# Altium footprint library FPGA_board.PcbLib: 25 footprints (part 1 of 2)
Each footprint in its own frame and in the unit in brackets; x right, y up, seen from the top. Pads: shape width x height; smd on the part's side, far side on the other; paste and mask are expansions set on the pad; w line width, h text height; cw(c..) or ccw(c..) is an arc to the next point about the centre after c.
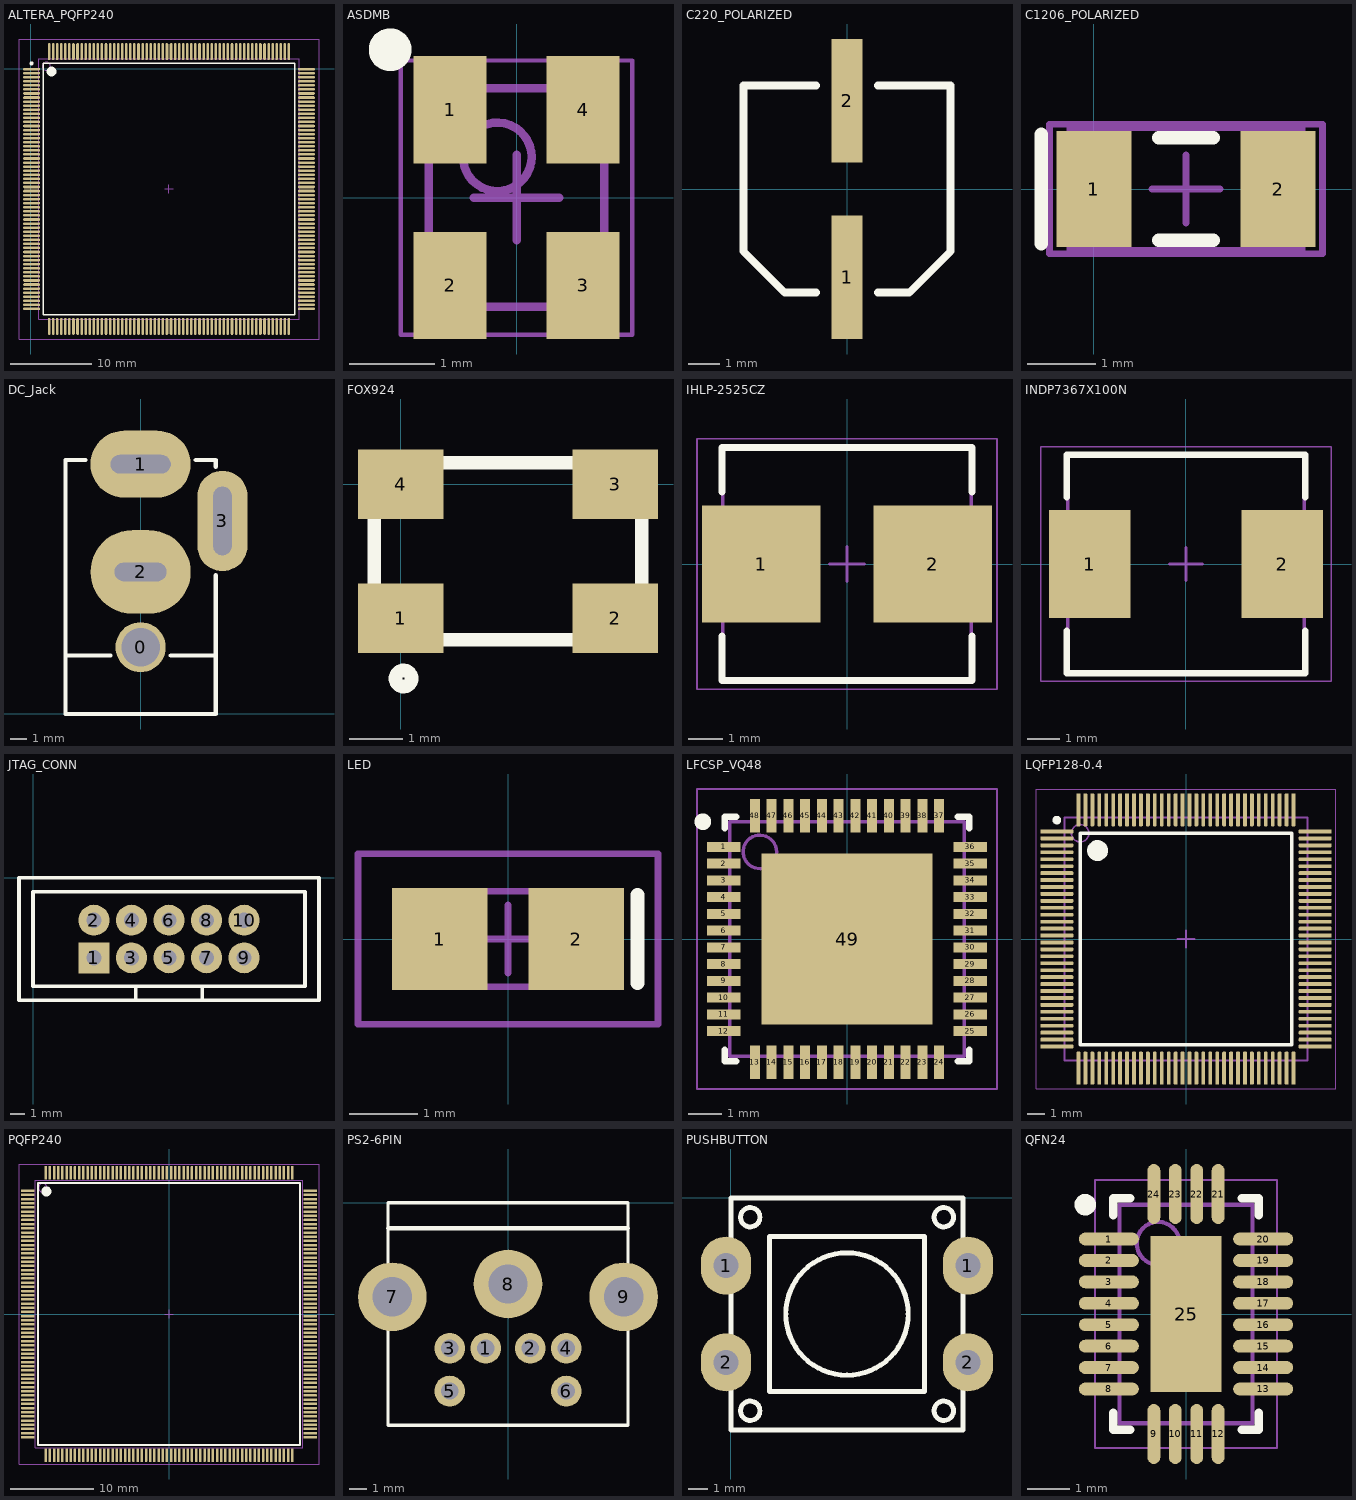
[diagram p0: the footprints below, top view; thin cyan lines are the x and y axes]

## ALTERA_PQFP240 [mm]
pads (240):
  oval 2.1x0.32 smd: 1(0.125,-0.025) 2(0.125,-0.525) 3(0.125,-1.025) 4(0.125,-1.525) 5(0.125,-2.025) 6(0.125,-2.525) 7(0.125,-3.025) 8(0.125,-3.525) 9(0.125,-4.025) 10(0.125,-4.525) 11(0.125,-5.025) 12(0.125,-5.525) 13(0.125,-6.025) 14(0.125,-6.525) 15(0.125,-7.025) 16(0.125,-7.525) 17(0.125,-8.025) 18(0.125,-8.525) 19(0.125,-9.025) 20(0.125,-9.525) 21(0.125,-10.025) 22(0.125,-10.525) 23(0.125,-11.025) 24(0.125,-11.525) 25(0.125,-12.025) 26(0.125,-12.525) 27(0.125,-13.025) 28(0.125,-13.525) 29(0.125,-14.025) 30(0.125,-14.525) 31(0.125,-15.025) 32(0.125,-15.525) 33(0.125,-16.025) 34(0.125,-16.525) 35(0.125,-17.025) 36(0.125,-17.525) 37(0.125,-18.025) 38(0.125,-18.525) 39(0.125,-19.025) 40(0.125,-19.525) 41(0.125,-20.025) 42(0.125,-20.525) 43(0.125,-21.025) 44(0.125,-21.525) 45(0.125,-22.025) 46(0.125,-22.525) 47(0.125,-23.025) 48(0.125,-23.525) 49(0.125,-24.025) 50(0.125,-24.525) 51(0.125,-25.025) 52(0.125,-25.525) 53(0.125,-26.025) 54(0.125,-26.525) 55(0.125,-27.025) 56(0.125,-27.525) 57(0.125,-28.025) 58(0.125,-28.525) 59(0.125,-29.025) 60(0.125,-29.525) 121(33.925,-29.525) 122(33.925,-29.025) 123(33.925,-28.525) 124(33.925,-28.025) 125(33.925,-27.525) 126(33.925,-27.025) 127(33.925,-26.525) 128(33.925,-26.025) 129(33.925,-25.525) 130(33.925,-25.025) 131(33.925,-24.525) 132(33.925,-24.025) 133(33.925,-23.525) 134(33.925,-23.025) 135(33.925,-22.525) 136(33.925,-22.025) 137(33.925,-21.525) 138(33.925,-21.025) 139(33.925,-20.525) 140(33.925,-20.025) 141(33.925,-19.525) 142(33.925,-19.025) 143(33.925,-18.525) 144(33.925,-18.025) 145(33.925,-17.525) 146(33.925,-17.025) 147(33.925,-16.525) 148(33.925,-16.025) 149(33.925,-15.525) 150(33.925,-15.025) 151(33.925,-14.525) 152(33.925,-14.025) 153(33.925,-13.525) 154(33.925,-13.025) 155(33.925,-12.525) 156(33.925,-12.025) 157(33.925,-11.525) 158(33.925,-11.025) 159(33.925,-10.525) 160(33.925,-10.025) 161(33.925,-9.525) 162(33.925,-9.025) 163(33.925,-8.525) 164(33.925,-8.025) 165(33.925,-7.525) 166(33.925,-7.025) 167(33.925,-6.525) 168(33.925,-6.025) 169(33.925,-5.525) 170(33.925,-5.025) 171(33.925,-4.525) 172(33.925,-4.025) 173(33.925,-3.525) 174(33.925,-3.025) 175(33.925,-2.525) 176(33.925,-2.025) 177(33.925,-1.525) 178(33.925,-1.025) 179(33.925,-0.525) 180(33.925,-0.025)
  oval 0.32x2.1 smd: 61(2.275,-31.675) 62(2.775,-31.675) 63(3.275,-31.675) 64(3.775,-31.675) 65(4.275,-31.675) 66(4.775,-31.675) 67(5.275,-31.675) 68(5.775,-31.675) 69(6.275,-31.675) 70(6.775,-31.675) 71(7.275,-31.675) 72(7.775,-31.675) 73(8.275,-31.675) 74(8.775,-31.675) 75(9.275,-31.675) 76(9.775,-31.675) 77(10.275,-31.675) 78(10.775,-31.675) 79(11.275,-31.675) 80(11.775,-31.675) 81(12.275,-31.675) 82(12.775,-31.675) 83(13.275,-31.675) 84(13.775,-31.675) 85(14.275,-31.675) 86(14.775,-31.675) 87(15.275,-31.675) 88(15.775,-31.675) 89(16.275,-31.675) 90(16.775,-31.675) 91(17.275,-31.675) 92(17.775,-31.675) 93(18.275,-31.675) 94(18.775,-31.675) 95(19.275,-31.675) 96(19.775,-31.675) 97(20.275,-31.675) 98(20.775,-31.675) 99(21.275,-31.675) 100(21.775,-31.675) 101(22.275,-31.675) 102(22.775,-31.675) 103(23.275,-31.675) 104(23.775,-31.675) 105(24.275,-31.675) 106(24.775,-31.675) 107(25.275,-31.675) 108(25.775,-31.675) 109(26.275,-31.675) 110(26.775,-31.675) 111(27.275,-31.675) 112(27.775,-31.675) 113(28.275,-31.675) 114(28.775,-31.675) 115(29.275,-31.675) 116(29.775,-31.675) 117(30.275,-31.675) 118(30.775,-31.675) 119(31.275,-31.675) 120(31.775,-31.675) 181(31.775,2.125) 182(31.275,2.125) 183(30.775,2.125) 184(30.275,2.125) 185(29.775,2.125) 186(29.275,2.125) 187(28.775,2.125) 188(28.275,2.125) 189(27.775,2.125) 190(27.275,2.125) 191(26.775,2.125) 192(26.275,2.125) 193(25.775,2.125) 194(25.275,2.125) 195(24.775,2.125) 196(24.275,2.125) 197(23.775,2.125) 198(23.275,2.125) 199(22.775,2.125) 200(22.275,2.125) 201(21.775,2.125) 202(21.275,2.125) 203(20.775,2.125) 204(20.275,2.125) 205(19.775,2.125) 206(19.275,2.125) 207(18.775,2.125) 208(18.275,2.125) 209(17.775,2.125) 210(17.275,2.125) 211(16.775,2.125) 212(16.275,2.125) 213(15.775,2.125) 214(15.275,2.125) 215(14.775,2.125) 216(14.275,2.125) 217(13.775,2.125) 218(13.275,2.125) 219(12.775,2.125) 220(12.275,2.125) 221(11.775,2.125) 222(11.275,2.125) 223(10.775,2.125) 224(10.275,2.125) 225(9.775,2.125) 226(9.275,2.125) 227(8.775,2.125) 228(8.275,2.125) 229(7.775,2.125) 230(7.275,2.125) 231(6.775,2.125) 232(6.275,2.125) 233(5.775,2.125) 234(5.275,2.125) 235(4.775,2.125) 236(4.275,2.125) 237(3.775,2.125) 238(3.275,2.125) 239(2.775,2.125) 240(2.275,2.125)
Top Overlay:
  circle w0.6: c2.575,-0.325 r0.3
  circle w0.25: c0.125,0.675 r0.125
  lines w0.2: 1.575,-30.225 32.475,-30.225 32.475,0.675 1.575,0.675 1.575,-30.225
Mechanical 13:
  circle w0.1: c1.925,0.325 r0.5
  lines w0.1: 1.025,-30.775 33.025,-30.775 33.025,1.225 1.025,1.225 1.025,-30.775
Mechanical 15:
  lines w0.1: 16.525,-14.775 17.525,-14.775 ; 17.025,-15.275 17.025,-14.275 ; -1.425,-33.225 35.475,-33.225 35.475,3.675 -1.425,3.675 -1.425,-33.225
3D body: height 4.1, standoff 0, extent 1.025,-30.775 33.025,1.225

## ASDMB [mm]
height 0.9
pads (4):
  rect 0.85x1.25 smd: 1(-0.775,1.025) 2(-0.775,-1.025) 3(0.775,-1.025) 4(0.775,1.025)
Top Overlay:
  circle w0.25: c-1.475,1.725 r0.125
Mechanical 13:
  circle w0.1: c-0.225,0.475 r0.4
  lines w0.1: -1.025,-1.275 -1.025,1.275 1.025,1.275 1.025,-1.275 -1.025,-1.275
Mechanical 15:
  lines w0.05: -1.35,-1.6 -1.35,1.6 1.35,1.6 1.35,-1.6 -1.35,-1.6
  lines w0.1: -0.5,0 0.5,0 ; 0,-0.5 0,0.5
3D body: height 0.9, standoff 0, extent -1.025,-1.275 1.025,1.275

## C220_POLARIZED [mm]
height 7.8
pads (2):
  rect 1x4 smd: 1(0,-2.85) 2(0,2.85)
Top Overlay:
  lines w0.254: -1.005,-3.35 -2.01,-3.35 -3.35,-2.01 -3.35,3.35 -1.005,3.35 ; 1.005,-3.35 2.01,-3.35 3.35,-2.01 3.35,3.35 1.005,3.35

## C1206_POLARIZED [mm]
height 2
pads (2):
  rect 1.1x1.7 smd: 1(0,0) 2(2.7,0)
Top Overlay:
  lines w0.2: -0.775,-0.8 -0.775,0.8 ; 0.95,-0.75 1.75,-0.75 ; 0.95,0.75 1.75,0.75
Mechanical 13:
  lines w0.1: -0.35,-0.9 -0.35,0.9 3.05,0.9 3.05,-0.9 -0.35,-0.9
Mechanical 15:
  lines w0.1: 0.85,0 1.85,0 ; 1.35,-0.5 1.35,0.5 ; -0.65,-0.95 -0.65,0.95 3.35,0.95 3.35,-0.95 -0.65,-0.95
3D body: height 1.3, standoff 0, extent -0.35,-0.9 3.05,0.9

## DC_Jack [mm]
height 11
pads (4):
  round 3 hole 2.3: 0(0,4)
  oval 6x4 hole 1.1 slot 3.6 at 0 deg: 1(0,14.95)
  oval 6x5 hole 1.1 slot 3.1 at 0 deg: 2(0,8.5)
  oval 3x6 hole 1.1 slot 4.1 at 90 deg: 3(4.9,11.55)
Top Overlay:
  lines w0.254: -4.5,3.5 -1.8,3.5 ; -3.3,15.2 -4.5,15.2 -4.5,8.2 -4.5,0 4.5,0 4.5,8.3 ; 1.8,3.5 4.5,3.5 ; 3.3,15.2 4.5,15.2 4.5,14.8

## FOX924 [mm]
height 1.5
pads (4):
  rect 1.6x1.3 smd: 1(0,-2.5) 2(4,-2.5) 3(4,0) 4(0,0)
Top Overlay:
  circle w0.254: c0.05,-3.625 r0.15
  lines w0.254: -0.5,-2.9 -0.5,0.4 4.5,0.4 4.5,-2.9 -0.5,-2.9

## IHLP-2525CZ [mm] "Molded Inductor, 2-Leads, Body 6,86x6,47mm, IPC Medium Density"
height 3
pads (2):
  rect 3.45x3.4 smd: 1(-2.5,0) 2(2.5,0)
Top Overlay:
  lines w0.2: -3.65,-2.1 -3.65,-3.4 3.65,-3.4 3.65,-2.1 ; -3.65,2.1 -3.65,3.4 3.65,3.4 3.65,2.1
Mechanical 13:
  lines w0.1: -3.62,-3.36 -3.62,3.36 3.62,3.36 3.62,-3.36 -3.62,-3.36
Mechanical 15:
  lines w0.05: -4.375,-3.65 -4.375,3.65 4.375,3.65 4.375,-3.65 -4.375,-3.65
  lines w0.1: -0.5,0 0.5,0 ; 0,-0.5 0,0.5
3D body: height 3, standoff 0, extent -3.62,-3.36 3.62,3.36

## INDP7367X100N [mm] "Precision Wire Wound Inductor, 2-Leads, Body 7,25x6,7mm, IPC Medium Density"
height 10
pads (2):
  rect 2.5x3.3 smd: 1(-2.95,0) 2(2.95,0)
Top Overlay:
  lines w0.2: -3.65,-2.05 -3.65,-3.35 3.65,-3.35 3.65,-2.05 ; -3.65,2.05 -3.65,3.35 3.65,3.35 3.65,2.05
Mechanical 13:
  lines w0.1: -3.625,-3.35 3.625,-3.35 3.625,3.35 -3.625,3.35 -3.625,-3.35
Mechanical 15:
  lines w0.05: -4.45,-3.6 4.45,-3.6 4.45,3.6 -4.45,3.6 -4.45,-3.6
  lines w0.1: -0.5,0 0.5,0 ; 0,-0.5 0,0.5
3D body: height 10, standoff 0, extent -3.625,-3.35 3.625,3.35

## JTAG_CONN [mm]
height 8.9
pads (10):
  rect 2.1x2.1 hole 1.02: 1(4.12,-5.42)
  round 2.1 hole 1.02: 2(4.12,-2.88) 3(6.66,-5.42) 4(6.66,-2.88) 5(9.2,-5.42) 6(9.2,-2.88) 7(11.74,-5.42) 8(11.74,-2.88) 9(14.28,-5.42) 10(14.28,-2.88)
Top Overlay:
  lines w0.254: 6.95,-8.3 6.95,-7.35 ; 11.45,-8.3 11.45,-7.35 ; -0.95,-8.3 -0.95,0 19.35,0 19.35,-8.3 -0.95,-8.3 ; 0,-7.35 0,-0.95 18.4,-0.95 18.4,-7.35 0,-7.35
3D body: height 2, standoff 0, extent -1.077,-8.427 19.477,0.127
3D body: height 8.9, standoff 0, extent -0.949,-8.299 19.349,-0.001

## LED [mm]
height 1
pads (2):
  rect 1.4x1.5 smd: 1(-1,0) 2(1,0)
Top Overlay:
  lines w0.2: 1.9,-0.65 1.9,0.65
Mechanical 13:
  lines w0.1: -1.075,-0.7 -1.075,0.7 1.075,0.7 1.075,-0.7 -1.075,-0.7
Mechanical 15:
  lines w0.1: -0.5,0 0.5,0 ; 0,-0.5 0,0.5 ; -2.2,-1.25 -2.2,1.25 2.2,1.25 2.2,-1.25 -2.2,-1.25
3D body: height 0.7, standoff 0, extent -1.075,-0.7 1.075,0.7

## LFCSP_VQ48 [mm] "QFN, 48-Leads, Body 7,00x7,00mm, Pitch 0,50mm, Thermal Pad 5,10x5,10mm, IPC Low Density"
height 1
pads (49):
  rect 1x0.3 smd: 1(-3.675,2.75) 2(-3.675,2.25) 3(-3.675,1.75) 4(-3.675,1.25) 5(-3.675,0.75) 6(-3.675,0.25) 7(-3.675,-0.25) 8(-3.675,-0.75) 9(-3.675,-1.25) 10(-3.675,-1.75) 11(-3.675,-2.25) 12(-3.675,-2.75) 25(3.675,-2.75) 26(3.675,-2.25) 27(3.675,-1.75) 28(3.675,-1.25) 29(3.675,-0.75) 30(3.675,-0.25) 31(3.675,0.25) 32(3.675,0.75) 33(3.675,1.25) 34(3.675,1.75) 35(3.675,2.25) 36(3.675,2.75)
  rect 0.3x1 smd: 13(-2.75,-3.675) 14(-2.25,-3.675) 15(-1.75,-3.675) 16(-1.25,-3.675) 17(-0.75,-3.675) 18(-0.25,-3.675) 19(0.25,-3.675) 20(0.75,-3.675) 21(1.25,-3.675) 22(1.75,-3.675) 23(2.25,-3.675) 24(2.75,-3.675) 37(2.75,3.675) 38(2.25,3.675) 39(1.75,3.675) 40(1.25,3.675) 41(0.75,3.675) 42(0.25,3.675) 43(-0.25,3.675) 44(-0.75,3.675) 45(-1.25,3.675) 46(-1.75,3.675) 47(-2.25,3.675) 48(-2.75,3.675)
  rect 5.1x5.1 smd: 49(0,0)
Top Overlay:
  circle w0.25: c-4.3,3.5 r0.125
  lines w0.2: -3.65,-3.3 -3.65,-3.65 -3.3,-3.65 ; -3.65,3.3 -3.65,3.65 -3.3,3.65 ; 3.3,-3.65 3.65,-3.65 3.65,-3.3 ; 3.3,3.65 3.65,3.65 3.65,3.3
Mechanical 13:
  circle w0.1: c-2.6,2.6 r0.5
  lines w0.1: -3.5,-3.5 -3.5,3.5 3.5,3.5 3.5,-3.5 -3.5,-3.5
Mechanical 15:
  lines w0.05: -4.475,-4.475 -4.475,4.475 4.475,4.475 4.475,-4.475 -4.475,-4.475
  lines w0.1: -0.5,0 0.5,0 ; 0,-0.5 0,0.5
3D body: height 1, standoff 0.05, extent -3.5,-3.5 3.5,3.5

## LQFP128-0.4 [mm]
height 1.6
pads (128):
  rrect50% 1.9x0.22 smd: 1(-7.45,6.2) 2(-7.45,5.8) 3(-7.45,5.4) 4(-7.45,5) 5(-7.45,4.6) 6(-7.45,4.2) 7(-7.45,3.8) 8(-7.45,3.4) 9(-7.45,3) 10(-7.45,2.6) 11(-7.45,2.2) 12(-7.45,1.8) 13(-7.45,1.4) 14(-7.45,1) 15(-7.45,0.6) 16(-7.45,0.2) 17(-7.45,-0.2) 18(-7.45,-0.6) 19(-7.45,-1) 20(-7.45,-1.4) 21(-7.45,-1.8) 22(-7.45,-2.2) 23(-7.45,-2.6) 24(-7.45,-3) 25(-7.45,-3.4) 26(-7.45,-3.8) 27(-7.45,-4.2) 28(-7.45,-4.6) 29(-7.45,-5) 30(-7.45,-5.4) 31(-7.45,-5.8) 32(-7.45,-6.2) 65(7.45,-6.2) 66(7.45,-5.8) 67(7.45,-5.4) 68(7.45,-5) 69(7.45,-4.6) 70(7.45,-4.2) 71(7.45,-3.8) 72(7.45,-3.4) 73(7.45,-3) 74(7.45,-2.6) 75(7.45,-2.2) 76(7.45,-1.8) 77(7.45,-1.4) 78(7.45,-1) 79(7.45,-0.6) 80(7.45,-0.2) 81(7.45,0.2) 82(7.45,0.6) 83(7.45,1) 84(7.45,1.4) 85(7.45,1.8) 86(7.45,2.2) 87(7.45,2.6) 88(7.45,3) 89(7.45,3.4) 90(7.45,3.8) 91(7.45,4.2) 92(7.45,4.6) 93(7.45,5) 94(7.45,5.4) 95(7.45,5.8) 96(7.45,6.2)
  rrect50% 0.22x1.9 smd: 33(-6.2,-7.45) 34(-5.8,-7.45) 35(-5.4,-7.45) 36(-5,-7.45) 37(-4.6,-7.45) 38(-4.2,-7.45) 39(-3.8,-7.45) 40(-3.4,-7.45) 41(-3,-7.45) 42(-2.6,-7.45) 43(-2.2,-7.45) 44(-1.8,-7.45) 45(-1.4,-7.45) 46(-1,-7.45) 47(-0.6,-7.45) 48(-0.2,-7.45) 49(0.2,-7.45) 50(0.6,-7.45) 51(1,-7.45) 52(1.4,-7.45) 53(1.8,-7.45) 54(2.2,-7.45) 55(2.6,-7.45) 56(3,-7.45) 57(3.4,-7.45) 58(3.8,-7.45) 59(4.2,-7.45) 60(4.6,-7.45) 61(5,-7.45) 62(5.4,-7.45) 63(5.8,-7.45) 64(6.2,-7.45) 97(6.2,7.45) 98(5.8,7.45) 99(5.4,7.45) 100(5,7.45) 101(4.6,7.45) 102(4.2,7.45) 103(3.8,7.45) 104(3.4,7.45) 105(3,7.45) 106(2.6,7.45) 107(2.2,7.45) 108(1.8,7.45) 109(1.4,7.45) 110(1,7.45) 111(0.6,7.45) 112(0.2,7.45) 113(-0.2,7.45) 114(-0.6,7.45) 115(-1,7.45) 116(-1.4,7.45) 117(-1.8,7.45) 118(-2.2,7.45) 119(-2.6,7.45) 120(-3,7.45) 121(-3.4,7.45) 122(-3.8,7.45) 123(-4.2,7.45) 124(-4.6,7.45) 125(-5,7.45) 126(-5.4,7.45) 127(-5.8,7.45) 128(-6.2,7.45)
Top Overlay:
  circle w0.25: c-7.45,6.855 r0.125
  circle w0.6: c-5.1,5.1 r0.3
  lines w0.2: -6.1,-6.1 -6.1,6.1 6.1,6.1 6.1,-6.1 -6.1,-6.1
Mechanical 13:
  circle w0.1: c-6.1,6.1 r0.5
  lines w0.1: -7,-7 -7,7 7,7 7,-7 -7,-7
Mechanical 15:
  lines w0.05: -8.65,-8.65 -8.65,8.65 8.65,8.65 8.65,-8.65 -8.65,-8.65
  lines w0.1: -0.5,0 0.5,0 ; 0,-0.5 0,0.5
3D body: height 1.6, standoff 0.05, extent -7,-7 7,7

## PQFP240 [mm] "SQFP, 240-Leads, Body 32,00x32,00mm, Pitch 0,50mm, IPC Medium Density"
height 4.1
pads (240):
  rrect50% 1.65x0.3 smd: 1(-16.9,14.75) 2(-16.9,14.25) 3(-16.9,13.75) 4(-16.9,13.25) 5(-16.9,12.75) 6(-16.9,12.25) 7(-16.9,11.75) 8(-16.9,11.25) 9(-16.9,10.75) 10(-16.9,10.25) 11(-16.9,9.75) 12(-16.9,9.25) 13(-16.9,8.75) 14(-16.9,8.25) 15(-16.9,7.75) 16(-16.9,7.25) 17(-16.9,6.75) 18(-16.9,6.25) 19(-16.9,5.75) 20(-16.9,5.25) 21(-16.9,4.75) 22(-16.9,4.25) 23(-16.9,3.75) 24(-16.9,3.25) 25(-16.9,2.75) 26(-16.9,2.25) 27(-16.9,1.75) 28(-16.9,1.25) 29(-16.9,0.75) 30(-16.9,0.25) 31(-16.9,-0.25) 32(-16.9,-0.75) 33(-16.9,-1.25) 34(-16.9,-1.75) 35(-16.9,-2.25) 36(-16.9,-2.75) 37(-16.9,-3.25) 38(-16.9,-3.75) 39(-16.9,-4.25) 40(-16.9,-4.75) 41(-16.9,-5.25) 42(-16.9,-5.75) 43(-16.9,-6.25) 44(-16.9,-6.75) 45(-16.9,-7.25) 46(-16.9,-7.75) 47(-16.9,-8.25) 48(-16.9,-8.75) 49(-16.9,-9.25) 50(-16.9,-9.75) 51(-16.9,-10.25) 52(-16.9,-10.75) 53(-16.9,-11.25) 54(-16.9,-11.75) 55(-16.9,-12.25) 56(-16.9,-12.75) 57(-16.9,-13.25) 58(-16.9,-13.75) 59(-16.9,-14.25) 60(-16.9,-14.75) 121(16.9,-14.75) 122(16.9,-14.25) 123(16.9,-13.75) 124(16.9,-13.25) 125(16.9,-12.75) 126(16.9,-12.25) 127(16.9,-11.75) 128(16.9,-11.25) 129(16.9,-10.75) 130(16.9,-10.25) 131(16.9,-9.75) 132(16.9,-9.25) 133(16.9,-8.75) 134(16.9,-8.25) 135(16.9,-7.75) 136(16.9,-7.25) 137(16.9,-6.75) 138(16.9,-6.25) 139(16.9,-5.75) 140(16.9,-5.25) 141(16.9,-4.75) 142(16.9,-4.25) 143(16.9,-3.75) 144(16.9,-3.25) 145(16.9,-2.75) 146(16.9,-2.25) 147(16.9,-1.75) 148(16.9,-1.25) 149(16.9,-0.75) 150(16.9,-0.25) 151(16.9,0.25) 152(16.9,0.75) 153(16.9,1.25) 154(16.9,1.75) 155(16.9,2.25) 156(16.9,2.75) 157(16.9,3.25) 158(16.9,3.75) 159(16.9,4.25) 160(16.9,4.75) 161(16.9,5.25) 162(16.9,5.75) 163(16.9,6.25) 164(16.9,6.75) 165(16.9,7.25) 166(16.9,7.75) 167(16.9,8.25) 168(16.9,8.75) 169(16.9,9.25) 170(16.9,9.75) 171(16.9,10.25) 172(16.9,10.75) 173(16.9,11.25) 174(16.9,11.75) 175(16.9,12.25) 176(16.9,12.75) 177(16.9,13.25) 178(16.9,13.75) 179(16.9,14.25) 180(16.9,14.75)
  rrect50% 0.3x1.65 smd: 61(-14.75,-16.9) 62(-14.25,-16.9) 63(-13.75,-16.9) 64(-13.25,-16.9) 65(-12.75,-16.9) 66(-12.25,-16.9) 67(-11.75,-16.9) 68(-11.25,-16.9) 69(-10.75,-16.9) 70(-10.25,-16.9) 71(-9.75,-16.9) 72(-9.25,-16.9) 73(-8.75,-16.9) 74(-8.25,-16.9) 75(-7.75,-16.9) 76(-7.25,-16.9) 77(-6.75,-16.9) 78(-6.25,-16.9) 79(-5.75,-16.9) 80(-5.25,-16.9) 81(-4.75,-16.9) 82(-4.25,-16.9) 83(-3.75,-16.9) 84(-3.25,-16.9) 85(-2.75,-16.9) 86(-2.25,-16.9) 87(-1.75,-16.9) 88(-1.25,-16.9) 89(-0.75,-16.9) 90(-0.25,-16.9) 91(0.25,-16.9) 92(0.75,-16.9) 93(1.25,-16.9) 94(1.75,-16.9) 95(2.25,-16.9) 96(2.75,-16.9) 97(3.25,-16.9) 98(3.75,-16.9) 99(4.25,-16.9) 100(4.75,-16.9) 101(5.25,-16.9) 102(5.75,-16.9) 103(6.25,-16.9) 104(6.75,-16.9) 105(7.25,-16.9) 106(7.75,-16.9) 107(8.25,-16.9) 108(8.75,-16.9) 109(9.25,-16.9) 110(9.75,-16.9) 111(10.25,-16.9) 112(10.75,-16.9) 113(11.25,-16.9) 114(11.75,-16.9) 115(12.25,-16.9) 116(12.75,-16.9) 117(13.25,-16.9) 118(13.75,-16.9) 119(14.25,-16.9) 120(14.75,-16.9) 181(14.75,16.9) 182(14.25,16.9) 183(13.75,16.9) 184(13.25,16.9) 185(12.75,16.9) 186(12.25,16.9) 187(11.75,16.9) 188(11.25,16.9) 189(10.75,16.9) 190(10.25,16.9) 191(9.75,16.9) 192(9.25,16.9) 193(8.75,16.9) 194(8.25,16.9) 195(7.75,16.9) 196(7.25,16.9) 197(6.75,16.9) 198(6.25,16.9) 199(5.75,16.9) 200(5.25,16.9) 201(4.75,16.9) 202(4.25,16.9) 203(3.75,16.9) 204(3.25,16.9) 205(2.75,16.9) 206(2.25,16.9) 207(1.75,16.9) 208(1.25,16.9) 209(0.75,16.9) 210(0.25,16.9) 211(-0.25,16.9) 212(-0.75,16.9) 213(-1.25,16.9) 214(-1.75,16.9) 215(-2.25,16.9) 216(-2.75,16.9) 217(-3.25,16.9) 218(-3.75,16.9) 219(-4.25,16.9) 220(-4.75,16.9) 221(-5.25,16.9) 222(-5.75,16.9) 223(-6.25,16.9) 224(-6.75,16.9) 225(-7.25,16.9) 226(-7.75,16.9) 227(-8.25,16.9) 228(-8.75,16.9) 229(-9.25,16.9) 230(-9.75,16.9) 231(-10.25,16.9) 232(-10.75,16.9) 233(-11.25,16.9) 234(-11.75,16.9) 235(-12.25,16.9) 236(-12.75,16.9) 237(-13.25,16.9) 238(-13.75,16.9) 239(-14.25,16.9) 240(-14.75,16.9)
Top Overlay:
  circle w0.6: c-14.675,14.675 r0.3
  lines w0.2: -15.675,-15.675 -15.675,15.675 15.675,15.675 15.675,-15.675 -15.675,-15.675
Mechanical 13:
  circle w0.1: c-15.1,15.1 r0.5
  lines w0.1: -16,-16 -16,16 16,16 16,-16 -16,-16
Mechanical 15:
  lines w0.05: -17.95,-17.95 -17.95,17.95 17.95,17.95 17.95,-17.95 -17.95,-17.95
  lines w0.1: -0.5,0 0.5,0 ; 0,-0.5 0,0.5
3D body: height 4.1, standoff 0.55, extent -16,-16 16,16

## PS2-6PIN [mm] "PS2 Socket, 6 Pin, Through Hole"
height 10
pads (9):
  round 1.8 hole 1: 1(-1.3,-8.5) 2(1.3,-8.5) 3(-3.4,-8.5) 4(3.4,-8.5) 5(-3.4,-11) 6(3.4,-11)
  round 4 hole 2.3: 7(-6.75,-5.5) 8(0,-4.75) 9(6.75,-5.5)
Top Overlay:
  lines w0.2: -7,-13 -7,0 7,0 7,-13 -7,-13
  lines w0.254: -7,-1.5 7,-1.5
3D body: height 13, standoff 0, extent -7.127,-13.1 7.127,0.1

## PUSHBUTTON [mm]
pads (4):
  oval 2.6x3 hole 1.3: 1(-0.25,-3.5) 1(12.25,-3.5) 2(-0.25,-8.5) 2(12.25,-8.5)
Top Overlay:
  circle w0.254: c1,-1 r0.5
  circle w0.254: c11,-1 r0.5
  circle w0.254: c11,-11 r0.5
  circle w0.254: c1,-11 r0.5
  circle w0.254: c6,-6 r3.162
  lines w0.254: 0,-12 0,0 12,0 12,-12 0,-12 ; 2,-10 2,-2 10,-2 10,-10 2,-10
3D body: height 3, standoff 0, extent 0.001,-11.999 11.999,-0.001
3D body: height 5, standoff 3, extent 2.001,-9.999 9.999,-2.001

## QFN24 [mm] "QFN, 24-Leads, Body 5,00x3,00mm, Pitch 0,50mm, Thermal Pad 3,65x1,65mm, IPC Medium Density"
height 0.8
pads (25):
  oval 1.4x0.3 smd: 1(-1.8,1.75) 2(-1.8,1.25) 3(-1.8,0.75) 4(-1.8,0.25) 5(-1.8,-0.25) 6(-1.8,-0.75) 7(-1.8,-1.25) 8(-1.8,-1.75) 13(1.8,-1.75) 14(1.8,-1.25) 15(1.8,-0.75) 16(1.8,-0.25) 17(1.8,0.25) 18(1.8,0.75) 19(1.8,1.25) 20(1.8,1.75)
  oval 0.3x1.4 smd: 9(-0.75,-2.8) 10(-0.25,-2.8) 11(0.25,-2.8) 12(0.75,-2.8) 21(0.75,2.8) 22(0.25,2.8) 23(-0.25,2.8) 24(-0.75,2.8)
  rect 1.65x3.65 smd: 25(0,0)
Top Overlay:
  circle w0.25: c-2.35,2.55 r0.125
  lines w0.2: -1.7,-2.3 -1.7,-2.7 -1.3,-2.7 ; -1.7,2.3 -1.7,2.7 -1.3,2.7 ; 1.3,-2.7 1.7,-2.7 1.7,-2.3 ; 1.3,2.7 1.7,2.7 1.7,2.3
Mechanical 13:
  circle w0.1: c-0.65,1.65 r0.5
  lines w0.1: -1.55,-2.55 -1.55,2.55 1.55,2.55 1.55,-2.55 -1.55,-2.55
Mechanical 15:
  lines w0.05: -2.125,-3.125 -2.125,3.125 2.125,3.125 2.125,-3.125 -2.125,-3.125
  lines w0.1: -0.5,0 0.5,0 ; 0,-0.5 0,0.5
3D body: height 0.8, standoff 0.15, extent -1.55,-2.55 1.55,2.55